# EAGLE library part MCP1725-XXXXX/SN (library 4534_Node_Board)
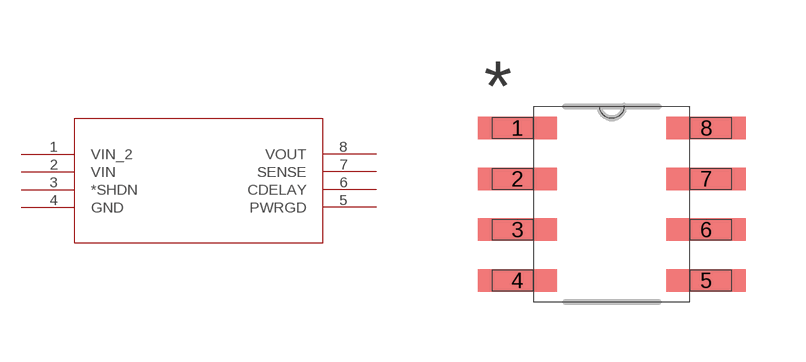
[diagram p2: symbol with the pads of SOIC8-N_MC; footprint SOIC8-N_MC]

Designator prefix -

## MCP1725-XXXXX/SN  [SOIC8-N_MC]
1  VIN_2  pas
2  VIN  pas
3  *SHDN  pas
4  GND  pas
5  PWRGD  pas
6  CDELAY  pas
7  SENSE  pas
8  VOUT  pas

## Footprint SOIC8-N_MC (pad centres in mm)
smd 1.981 x 0.559: 1 -2.362,1.905; 2 -2.362,0.635; 3 -2.362,-0.635; 4 -2.362,-1.905; 5 2.362,-1.905; 6 2.362,-0.635; 7 2.362,0.635; 8 2.362,1.905